# Altium schematic symbol library Schematic_Relay.SchLib: 1 symbol
Pins are listed as number, name and electrical type; pins without a type are passive.

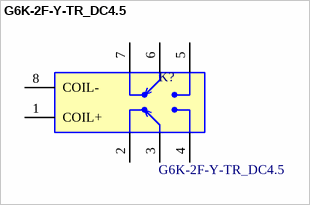
[diagram p0: symbol G6K-2F-Y-TR_DC4.5]

## G6K-2F-Y-TR_DC4.5
designator K?
Low Signal Relays - PCB Gullwing NoLatch 3.2 DPDT 4.5VDC 100mW TR; Manufacturer_Name: Omron Electronics; Manufacturer_Part_Number: G6K-2F-Y-TR DC4.5; Mouser Part Number: 653-G6K-2F-Y-TRDC45; Mouser Price/Stock: https://www.mouser.com/Search/Refine.aspx?Keyword=653-G6K-2F-Y-TRDC45; RS Part Number: *; RS Price/Stock: *; Datasheet Link: https://omronfs.omron.com/en_US/ecb/products/pdf/en-g6k.pdf; Supplier 1: Digi-Key; Supplier Part Number 1: Z127TR-ND
footprint G6K-2F-Y
pins: 1 COIL+, 2 NC_1, 3 COM_1, 4 NO_1, 5 NO_2, 6 COM_2, 7 NC_2, 8 COIL-